# Altium footprint library 35-pin-ampseal.PcbLib: 1 footprints
Each footprint in its own frame and in the unit in brackets; x right, y up, seen from the top. Pads: shape width x height; smd on the part's side, far side on the other; paste and mask are expansions set on the pad; w line width, h text height; cw(c..) or ccw(c..) is an arc to the next point about the centre after c.
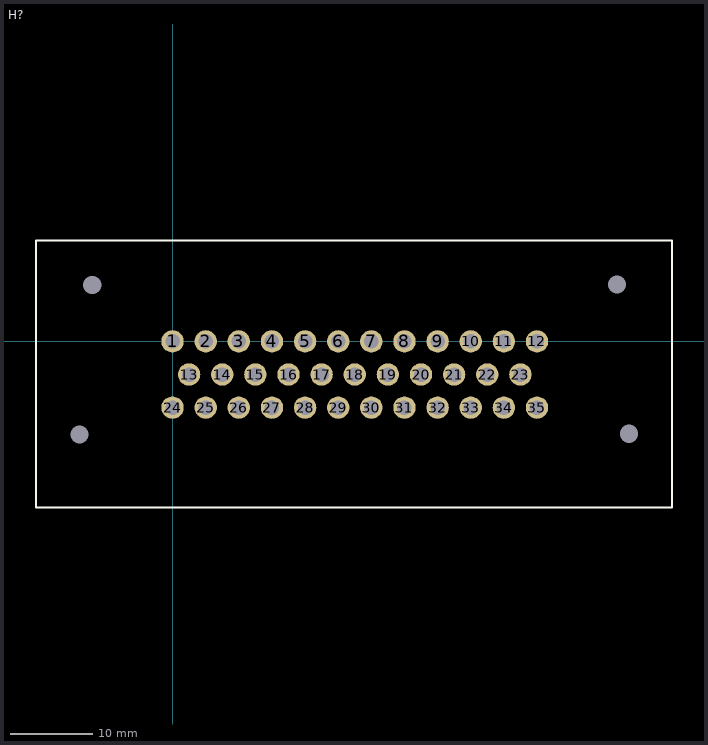
[diagram p0: the footprint, top view; thin cyan lines are the x and y axes]

## H? [mm] "HEADER ASSY, 35 POS VERTICAL"
pads (39):
  round 2.7 hole 1.75: 1(0,0) 2(4,0) 3(8,0) 4(12,0) 5(16,0) 6(20,0) 7(24,0) 8(28,0) 9(32,0) 10(36,0) 11(40,0) 12(44,0) 13(2,-4) 14(6,-4) 15(10,-4) 16(14,-4) 17(18,-4) 18(22,-4) 19(26,-4) 20(30,-4) 21(34,-4) 22(38,-4) 23(42,-4) 24(0,-8) 25(4,-8) 26(8,-8) 27(12,-8) 28(16,-8) 29(20,-8) 30(24,-8) 31(28,-8) 32(32,-8) 33(36,-8) 34(40,-8) 35(44,-8)
  round 0 hole 2.2: ""(-11.248,-11.231) ""(-9.7,6.8) ""(53.652,6.869) ""(55.104,-11.162)
Top Overlay:
  lines w0.254: -16.51,-20.066 60.325,-20.066 60.325,12.192 -16.51,12.192 -16.51,-20.066
3D body "c-0776230-11-a-3d.stp": height 34, standoff -3.97, extent -16.479,-20.035 60.421,12.065